# EAGLE library part PARALLEL (library F030NG)
D-Subminiatur Connector Source: Electronioc Interconnects European Edition 1998
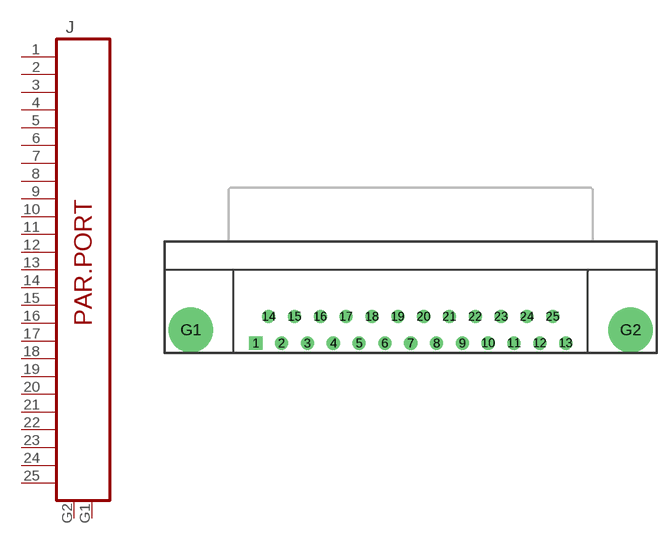
[diagram p10: symbol with the pads of DB25F; footprint DB25F]

Designator prefix J

## PARALLEL-DB25F  [DB25F]
1  1  pas
2  2  pas
3  3  pas
4  4  pas
5  5  pas
6  6  pas
7  7  pas
8  8  pas
9  9  pas
10  10  pas
11  11  pas
12  12  pas
13  13  pas
14  14  pas
15  15  pas
16  16  pas
17  17  pas
18  18  pas
19  19  pas
20  20  pas
21  21  pas
22  22  pas
23  23  pas
24  24  pas
25  25  pas
G1  G2  pas
G2  G1  pas

## Footprint DB25F (pad centres in mm)
THOMAS&BETTS H5M09RA29A
drill 0.9 square: 1 -16.617,-1.422
drill 0.9: 2 -13.847,-1.422; 3 -11.077,-1.422; 4 -8.307,-1.422; 5 -5.537,-1.422; 6 -2.767,-1.422; 7 0.003,-1.422; 8 2.773,-1.422; 9 5.543,-1.422; 10 8.313,-1.422; 11 11.083,-1.422; 12 13.853,-1.422; 13 16.623,-1.422; 14 -15.233,1.422; 15 -12.463,1.422; 16 -9.693,1.422; 17 -6.923,1.422; 18 -4.153,1.422; 19 -1.383,1.422; 20 1.387,1.422; 21 4.157,1.422; 22 6.927,1.422; 23 9.697,1.422; 24 12.467,1.422; 25 15.237,1.422
drill 3.4 pad 4.8: G1 -23.58,0; G2 23.58,0